# Altium schematic symbol library CD74HC4052.Schlib: 1 symbol
Pins are listed as number, name and electrical type; pins without a type are passive.

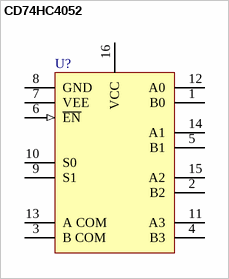
[diagram p0: symbol CD74HC4052]

## CD74HC4052
designator U?
Dual 4:1 Analog Mux
pins: 1 B0, 2 B2, 3 B COM, 4 B3, 5 B1, 6 ~{EN} (in), 7 VEE, 8 GND, 9 S1, 10 S0, 11 A3, 12 A0, 13 A COM, 14 A1, 15 A2, 16 VCC
1 alternate drawing of the same symbol